# EAGLE library part HSEC8-140-01-XX-DV-A (library HSEC8-1xx-01-XX-DV-A)
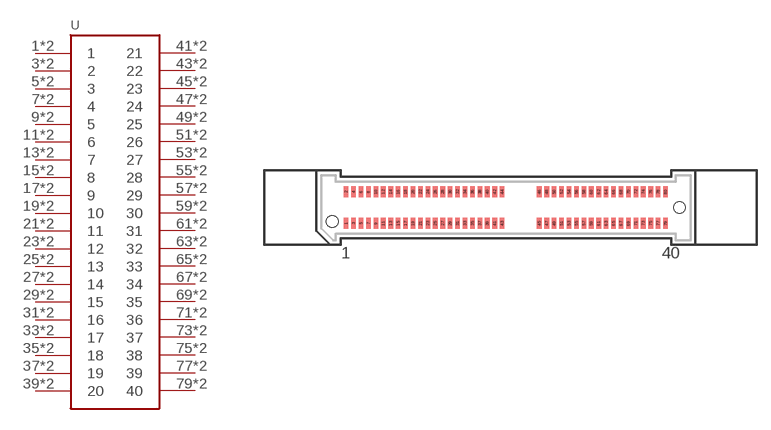
[diagram p2: symbol with the pads of HSEC8-140-01-XX-DV-A; footprint HSEC8-140-01-XX-DV-A]

Designator prefix -

## HSEC8-140-01-XX-DV-A  [HSEC8-140-01-XX-DV-A]
1  1
2  1
3  2
4  2
5  3
6  3
7  4
8  4
9  5
10  5
11  6
12  6
13  7
14  7
15  8
16  8
17  9
18  9
19  10
20  10
21  11
22  11
23  12
24  12
25  13
26  13
27  14
28  14
29  15
30  15
31  16
32  16
33  17
34  17
35  18
36  18
37  19
38  19
39  20
40  20
41  21
42  21
43  22
44  22
45  23
46  23
47  24
48  24
49  25
50  25
51  26
52  26
53  27
54  27
55  28
56  28
57  29
58  29
59  30
60  30
61  31
62  31
63  32
64  32
65  33
66  33
67  34
68  34
69  35
70  35
71  36
72  36
73  37
74  37
75  38
76  38
77  39
78  39
79  40
80  40

## Footprint HSEC8-140-01-XX-DV-A (pad centres in mm)
0.8MM HIGH SPEED EDGE CARD ASSEMBLY. MANUFACTURER:SAMTEC.
smd 0.5 x 1.2: 1 -17.2,-1.7; 2 -17.2,1.7; 3 -16.4,-1.7; 4 -16.4,1.7; 5 -15.6,-1.7; 6 -15.6,1.7; 7 -14.8,-1.7; 8 -14.8,1.7; 9 -14,-1.7; 10 -14,1.7; 11 -13.2,-1.7; 12 -13.2,1.7; 13 -12.4,-1.7; 14 -12.4,1.7; 15 -11.6,-1.7; 16 -11.6,1.7; 17 -10.8,-1.7; 18 -10.8,1.7; 19 -10,-1.7; 20 -10,1.7; 21 -9.2,-1.7; 22 -9.2,1.7; 23 -8.4,-1.7; 24 -8.4,1.7; 25 -7.6,-1.7; 26 -7.6,1.7; 27 -6.8,-1.7; 28 -6.8,1.7; 29 -6,-1.7; 30 -6,1.7; 31 -5.2,-1.7; 32 -5.2,1.7; 33 -4.4,-1.7; 34 -4.4,1.7; 35 -3.6,-1.7; 36 -3.6,1.7; 37 -2.8,-1.7; 38 -2.8,1.7; 39 -2,-1.7; 40 -2,1.7; 41 -1.2,-1.7; 42 -1.2,1.7; 43 -0.4,-1.7; 44 -0.4,1.7; 45 3.6,-1.7; 46 3.6,1.7; 47 4.4,-1.7; 48 4.4,1.7; 49 5.2,-1.7; 50 5.2,1.7; 51 6,-1.7; 52 6,1.7; 53 6.8,-1.7; 54 6.8,1.7; 55 7.6,-1.7; 56 7.6,1.7; 57 8.4,-1.7; 58 8.4,1.7; 59 9.2,-1.7; 60 9.2,1.7; 61 10,-1.7; 62 10,1.7; 63 10.8,-1.7; 64 10.8,1.7; 65 11.6,-1.7; 66 11.6,1.7; 67 12.4,-1.7; 68 12.4,1.7; 69 13.2,-1.7; 70 13.2,1.7; 71 14,-1.7; 72 14,1.7; 73 14.8,-1.7; 74 14.8,1.7; 75 15.6,-1.7; 76 15.6,1.7; 77 16.4,-1.7; 78 16.4,1.7; 79 17.2,-1.7; 80 17.2,1.7
hole 1.27 at -18.7,-1.5
hole 1.27 at 18.7,0